# Altium schematic symbol library ZM5304.SchLib: 1 symbol
Pins are listed as number, name and electrical type; pins without a type are passive.

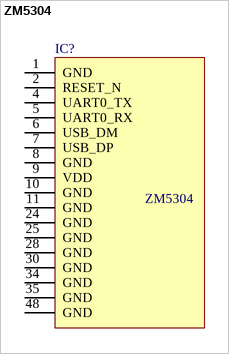
[diagram p0: symbol ZM5304]

## ZM5304
designator IC?
Manufacturer: Silicon Labs; Part Number: ZM5304AE-CME3R
footprint ZM5304
pins: 1 GND, 2 RESET_N, 4 UART0_TX, 5 UART0_RX, 6 USB_DM, 7 USB_DP, 8 GND, 9 VDD, 10 GND, 11 GND, 24 GND, 25 GND, 28 GND, 30 GND, 34 GND, 35 GND, 48 GND